# EAGLE library part PGA2500_DB_28 (library Texas Instruments)
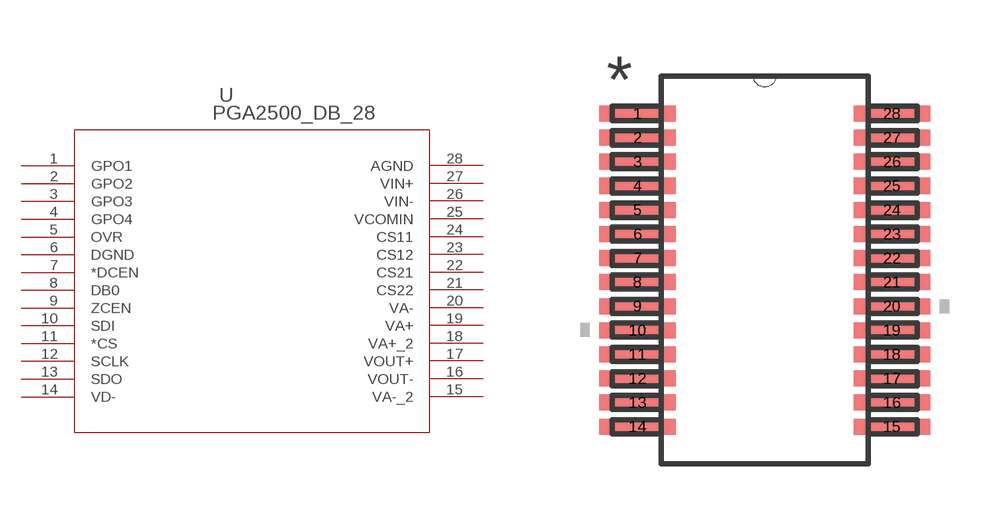
[diagram p13: symbol with the pads of DB28; footprint DB28]

Designator prefix U

## PGA2500_DB_28 (DATASHEETURL: http://www.ti.com/lit/gpn/PGA2500; DESCRIPTION: Gain Range: 0dB, and 10dB to 65dB in 1dB steps; FAMILY_NAME: MICROPHONE PREAMPLIFIER; GENERIC_PART_NUMBER: PGA2500; INDUSTRY_STD_PKG_TYPE: SSOP; MANUFACTURER: Texas Instruments; MANUFACTURER_PART_NUMBER: pga2500_db_28; PACKAGE_DESIGNATOR: DB; PIN_COUNT: 28; VENDOR: Texas Instruments)  [DB28]
1  GPO1  out
2  GPO2  out
3  GPO3  out
4  GPO4  out
5  OVR  out
6  DGND  pwr
7  *DCEN  pas
8  DB0  pas
9  ZCEN  pas
10  SDI  in
11  *CS  in
12  SCLK  in
13  SDO  out
14  VD-  pwr
15  VA-_2  pwr
16  VOUT-  out
17  VOUT+  out
18  VA+_2  pwr
19  VA+  pwr
20  VA-  pwr
21  CS22  pas
22  CS21  pas
23  CS12  pas
24  CS11  pas
25  VCOMIN  in
26  VIN-  in
27  VIN+  in
28  AGND  pwr

## Footprint DB28 (pad centres in mm)
smd 2.057 x 0.432: 1 -3.429,4.225; 2 -3.429,3.575; 3 -3.429,2.925; 4 -3.429,2.275; 5 -3.429,1.625; 6 -3.429,0.975; 7 -3.429,0.325; 8 -3.429,-0.325; 9 -3.429,-0.975; 10 -3.429,-1.625; 11 -3.429,-2.275; 12 -3.429,-2.925; 13 -3.429,-3.575; 14 -3.429,-4.225; 15 3.429,-4.225; 16 3.429,-3.575; 17 3.429,-2.925; 18 3.429,-2.275; 19 3.429,-1.625; 20 3.429,-0.975; 21 3.429,-0.325; 22 3.429,0.325; 23 3.429,0.975; 24 3.429,1.625; 25 3.429,2.275; 26 3.429,2.925; 27 3.429,3.575; 28 3.429,4.225